# Altium schematic symbol library SamacSys.SchLib: 113 symbols (part 2 of 2)
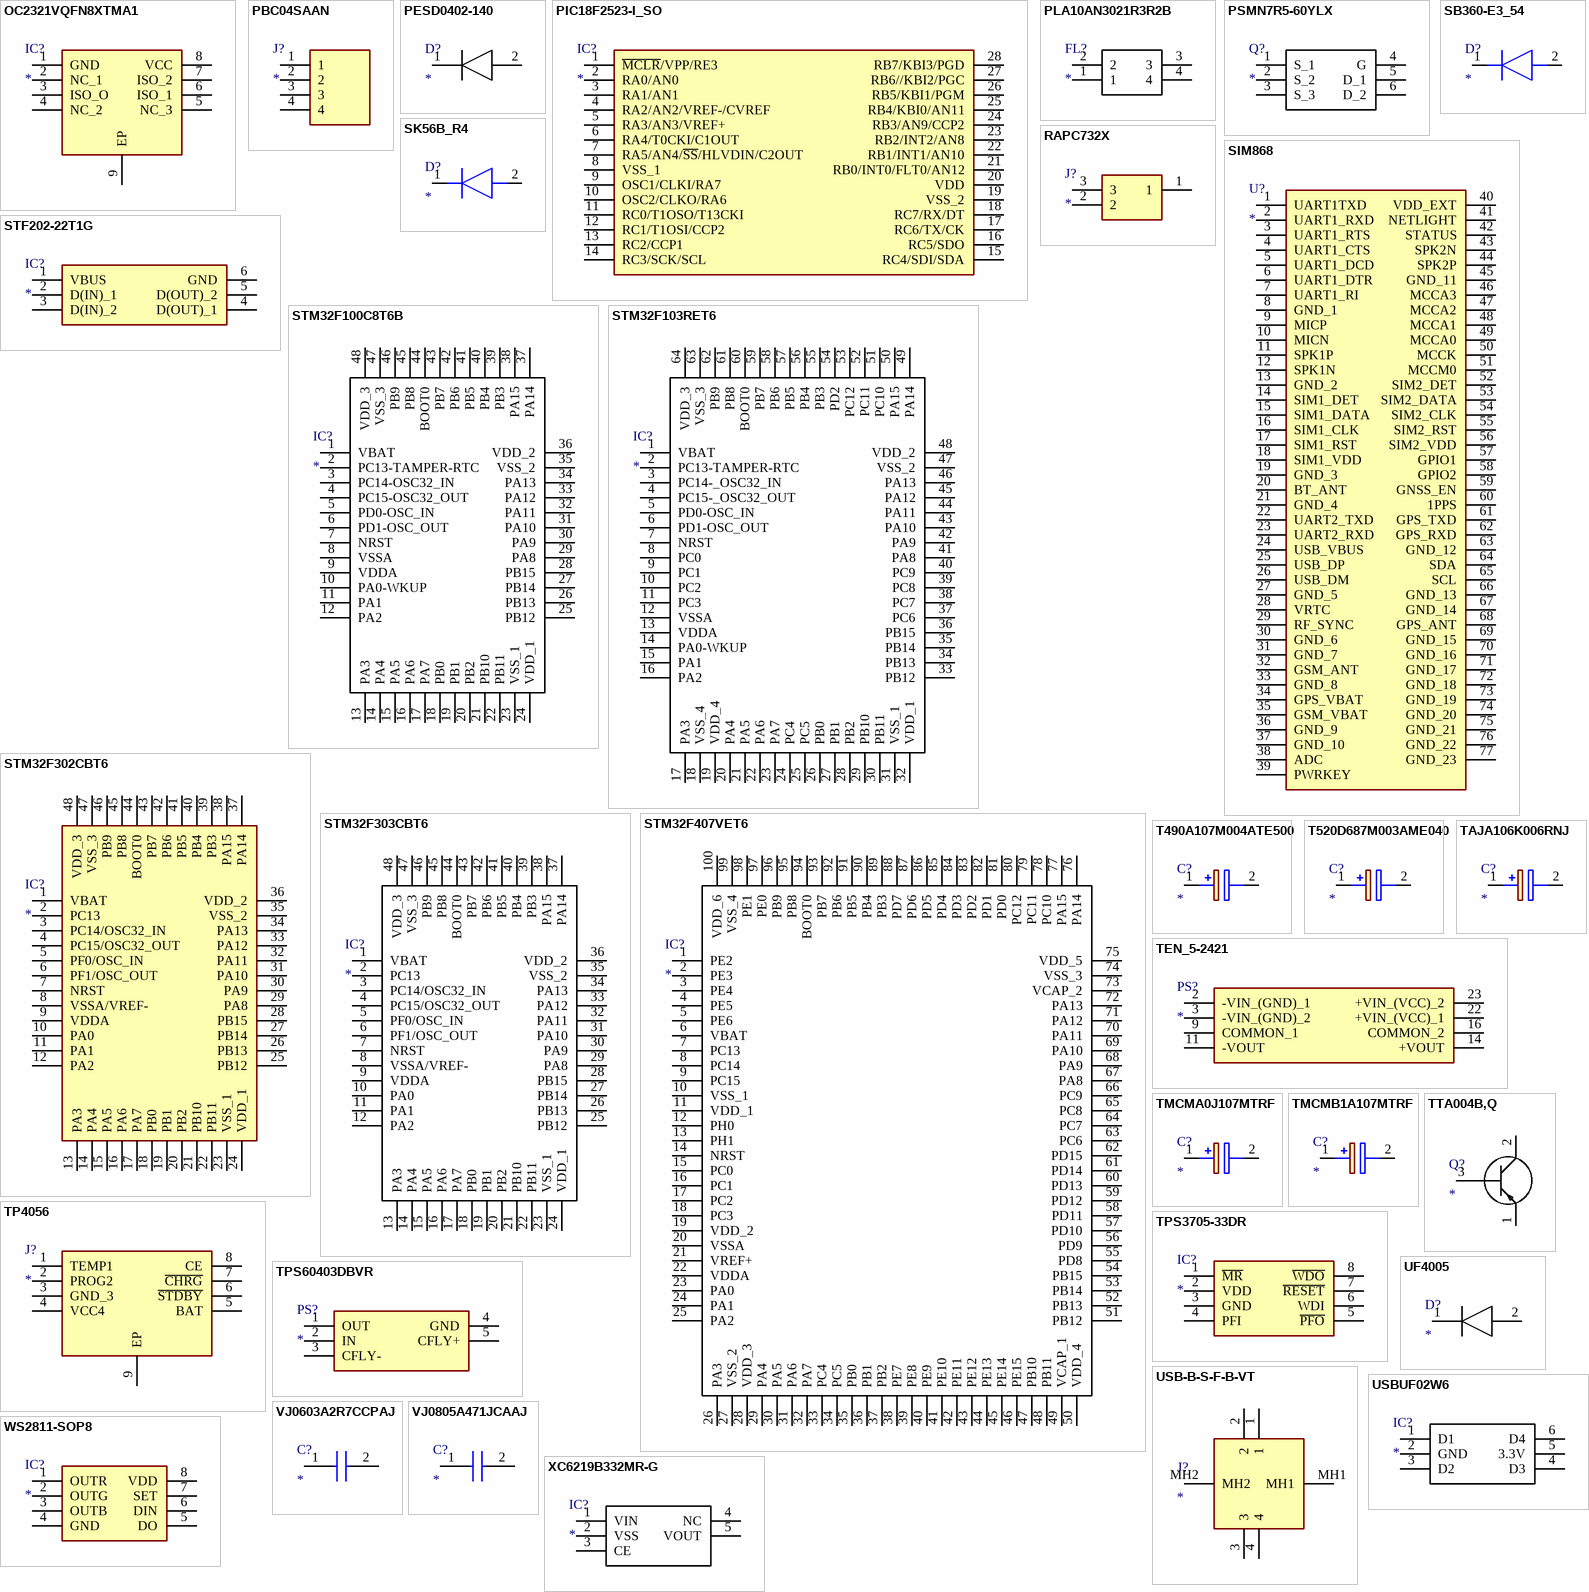
[diagram p3: symbols OC2321VQFN8XTMA1 to XC6219B332MR-G]

## STM32F302CBT6
designator IC?
Integrated Circuit; Manufacturer_Name: STMicroelectronics; Manufacturer_Part_Number: STM32F302CBT6; Datasheet Link: http://www.st.com/web/en/resource/technical/document/datasheet/DM00094064.pdf; Height: 1.6mm; Mouser Part Number: 511-STM32F302CBT6; Mouser Price/Stock: https://www.mouser.co.uk/ProductDetail/STMicroelectronics/STM32F302CBT6?qs=MgMGkPeFqc9mNHDa48Rp7g%3D%3D; Arrow Part Number: STM32F302CBT6; Arrow Price/Stock: https://www.arrow.com/en/products/stm32f302cbt6/stmicroelectronics
footprint QFP50P900X900X160-48N
pins: 1 VBAT, 2 PC13, 3 PC14/OSC32_IN, 4 PC15/OSC32_OUT, 5 PF0/OSC_IN, 6 PF1/OSC_OUT, 7 NRST, 8 VSSA/VREF-, 9 VDDA, 10 PA0, 11 PA1, 12 PA2, 13 PA3, 14 PA4, 15 PA5, 16 PA6, 17 PA7, 18 PB0, 19 PB1, 20 PB2, 21 PB10, 22 PB11, 23 VSS_1, 24 VDD_1, 25 PB12, 26 PB13, 27 PB14, 28 PB15, 29 PA8, 30 PA9, 31 PA10, 32 PA11, 33 PA12, 34 PA13, 35 VSS_2, 36 VDD_2, 37 PA14, 38 PA15, 39 PB3, 40 PB4, 41 PB5, 42 PB6, 43 PB7, 44 BOOT0, 45 PB8, 46 PB9, 47 VSS_3, 48 VDD_3

## STM32F303CBT6
designator IC?
Integrated Circuit; Manufacturer_Name: STMicroelectronics; Manufacturer_Part_Number: STM32F303CBT6; Description: STMICROELECTRONICS - STM32F303CBT6 - ARM MCU; Datasheet Link: http://www.st.com/web/en/resource/technical/document/datasheet/DM00058181.pdf; Height: 1.6mm; Mouser Part Number: 511-STM32F303CBT6; Mouser Price/Stock: https://www.mouser.co.uk/ProductDetail/STMicroelectronics/STM32F303CBT6?qs=MgMGkPeFqc%252BXYQm6xWYbvw%3D%3D; Arrow Part Number: STM32F303CBT6; Arrow Price/Stock: https://www.arrow.com/en/products/stm32f303cbt6/stmicroelectronics
footprint QFP50P900X900X160-48N
pins: 1 VBAT, 2 PC13, 3 PC14/OSC32_IN, 4 PC15/OSC32_OUT, 5 PF0/OSC_IN, 6 PF1/OSC_OUT, 7 NRST, 8 VSSA/VREF-, 9 VDDA, 10 PA0, 11 PA1, 12 PA2, 13 PA3, 14 PA4, 15 PA5, 16 PA6, 17 PA7, 18 PB0, 19 PB1, 20 PB2, 21 PB10, 22 PB11, 23 VSS_1, 24 VDD_1, 25 PB12, 26 PB13, 27 PB14, 28 PB15, 29 PA8, 30 PA9, 31 PA10, 32 PA11, 33 PA12, 34 PA13, 35 VSS_2, 36 VDD_2, 37 PA14, 38 PA15, 39 PB3, 40 PB4, 41 PB5, 42 PB6, 43 PB7, 44 BOOT0, 45 PB8, 46 PB9, 47 VSS_3, 48 VDD_3

## STM32F407VET6
designator IC?
Integrated Circuit; Manufacturer_Name: STMicroelectronics; Manufacturer_Part_Number: STM32F407VET6; Datasheet Link: http://www.st.com/web/en/resource/technical/document/datasheet/DM00037051.pdf; Height: 1.6mm; Mouser Part Number: 511-STM32F407VET6; Mouser Price/Stock: https://www.mouser.co.uk/ProductDetail/STMicroelectronics/STM32F407VET6?qs=Z8%252BeY1k3TIJFAMMqSR%252BGtw%3D%3D; Arrow Part Number: STM32F407VET6; Arrow Price/Stock: https://www.arrow.com/en/products/stm32f407vet6/stmicroelectronics?region=nac
footprint QFP50P1600X1600X160-100N
pins: 1 PE2, 2 PE3, 3 PE4, 4 PE5, 5 PE6, 6 VBAT, 7 PC13, 8 PC14, 9 PC15, 10 VSS_1, 11 VDD_1, 12 PH0, 13 PH1, 14 NRST, 15 PC0, 16 PC1, 17 PC2, 18 PC3, 19 VDD_2, 20 VSSA, 21 VREF+, 22 VDDA, 23 PA0, 24 PA1, 25 PA2, 26 PA3, 27 VSS_2, 28 VDD_3, 29 PA4, 30 PA5, 31 PA6, 32 PA7, 33 PC4, 34 PC5, 35 PB0, 36 PB1, 37 PB2, 38 PE7, 39 PE8, 40 PE9, 41 PE10, 42 PE11, 43 PE12, 44 PE13, 45 PE14, 46 PE15, 47 PB10, 48 PB11, 49 VCAP_1, 50 VDD_4, 51 PB12, 52 PB13, 53 PB14, 54 PB15, 55 PD8, 56 PD9, 57 PD10, 58 PD11, 59 PD12, 60 PD13, 61 PD14, 62 PD15, 63 PC6, 64 PC7, 65 PC8, 66 PC9, 67 PA8, 68 PA9, 69 PA10, 70 PA11, 71 PA12, 72 PA13, 73 VCAP_2, 74 VSS_3, 75 VDD_5, 76 PA14, 77 PA15, 78 PC10, 79 PC11, 80 PC12, 81 PD0, 82 PD1, 83 PD2, 84 PD3, 85 PD4, 86 PD5, 87 PD6, 88 PD7, 89 PB3, 90 PB4, 91 PB5, 92 PB6, 93 PB7, 94 BOOT0, 95 PB8, 96 PB9, 97 PE0, 98 PE1, 99 VSS_4, 100 VDD_6

## T490A107M004ATE500
designator C?
Capacitor Polarised; Manufacturer_Name: KEMET; Manufacturer_Part_Number: T490A107M004ATE500; Datasheet Link: https://content.kemet.com/datasheets/KEM_T2004_T490.pdf; Height: 1.8mm; Mouser Part Number: 80-T490A107M004500; Mouser Price/Stock: https://www.mouser.co.uk/ProductDetail/KEMET/T490A107M004ATE500?qs=Ad%252Bh9aq9FyX%2Fd5iGy7%252BKtA%3D%3D
footprint T490A
pins: 1 +, 2 -

## T520D687M003AME040
designator C?
Capacitor Polarised; Manufacturer_Name: KEMET; Manufacturer_Part_Number: T520D687M003AME040; Datasheet Link: http://componentsearchengine.com/Datasheets/1/T520D687M003AME040.pdf; Height: 3.1mm; Mouser Part Number: 80-T520D687M3AME40; Mouser Price/Stock: https://www.mouser.com/Search/Refine.aspx?Keyword=80-T520D687M3AME40
footprint T520D
pins: 1 +, 2 -

## TAJA106K006RNJ
designator C?
Capacitor Polarised; Manufacturer_Name: AVX; Manufacturer_Part_Number: TAJA106K006RNJ; Datasheet Link: http://www.farnell.com/datasheets/1680476.pdf; Height: 1.8mm; Mouser Part Number: 581-TAJA106K006R; Mouser Price/Stock: https://www.mouser.co.uk/ProductDetail/AVX/TAJA106K006RNJ?qs=OVpPYgiJXXXExJiDx3gF5A%3D%3D; Arrow Part Number: TAJA106K006RNJ; Arrow Price/Stock: https://www.arrow.com/en/products/taja106k006rnj/avx
footprint CAPPM3216X180N
pins: 1 +, 2 -

## TEN_5-2421
designator PS?
Power Supply; Manufacturer_Name: Traco Power; Manufacturer_Part_Number: TEN 5-2421; Datasheet Link: https://tracopower.com/ten5-datasheet/; Height: 10.45mm; Mouser Part Number: 495-TEN-5-2421; Mouser Price/Stock: https://www.mouser.com/Search/Refine.aspx?Keyword=495-TEN-5-2421
footprint TEN52422
pins: 2 -VIN_(GND)_1, 3 -VIN_(GND)_2, 9 COMMON_1, 11 -VOUT, 14 +VOUT, 16 COMMON_2, 22 +VIN_(VCC)_1, 23 +VIN_(VCC)_2

## TMCMA0J107MTRF
designator C?
Capacitor Polarised; Manufacturer_Name: Vishay; Manufacturer_Part_Number: TMCMA0J107MTRF; Datasheet Link: http://www.vishay.com/docs/40178/tmcm.pdf; Height: 1.8mm; Mouser Part Number: 74-TMCMA0J107MTRF; Mouser Price/Stock: https://www.mouser.com/Search/Refine.aspx?Keyword=74-TMCMA0J107MTRF; Arrow Part Number: TMCMA0J107MTRF; Arrow Price/Stock: https://www.arrow.com/en/products/tmcma0j107mtrf/vishay
footprint CAPPM3216X180N
pins: 1 +, 2 -

## TMCMB1A107MTRF
designator C?
Capacitor Polarised; Manufacturer_Name: Vishay; Manufacturer_Part_Number: TMCMB1A107MTRF; Datasheet Link: http://www.farnell.com/datasheets/2899268.pdf; Height: 2.1mm; Mouser Part Number: 74-TMCMB1A107MTRF; Mouser Price/Stock: https://www.mouser.co.uk/ProductDetail/Vishay-Sprague/TMCMB1A107MTRF?qs=NgbZBzc1CyHbQIfZUApxAw%3D%3D; Arrow Part Number: TMCMB1A107MTRF; Arrow Price/Stock: https://www.arrow.com/en/products/tmcmb1a107mtrf/vishay
footprint CAPPM3528X210N
pins: 1 +, 2 -

## TP4056
designator J?
Connector; Manufacturer_Name: NanJing Top Power; Manufacturer_Part_Number: TP4056; Datasheet Link: https://dlnmh9ip6v2uc.cloudfront.net/datasheets/Prototyping/TP4056.pdf; Height: 1.75mm
footprint SOIC127P600X175-9N
pins: 1 TEMP1, 2 PROG2, 3 GND_3, 4 VCC4, 5 BAT, 6 ~{STDBY}, 7 ~{CHRG}, 8 CE, 9 EP

## TPS3705-33DR
designator IC?
Integrated Circuit; Manufacturer_Name: Texas Instruments; Manufacturer_Part_Number: TPS3705-33DR; Datasheet Link: http://www.ti.com/lit/gpn/TPS3705; Height: 1.75mm; Mouser Part Number: 595-TPS3705-33DR; Mouser Price/Stock: https://www.mouser.co.uk/ProductDetail/Texas-Instruments/TPS3705-33DR?qs=zwk82MlA57bQjUG%2FzeNJiw%3D%3D; Arrow Part Number: TPS3705-33DR; Arrow Price/Stock: https://www.arrow.com/en/products/tps3705-33dr/texas-instruments
footprint SOIC127P600X175-8N
pins: 1 ~{MR}, 2 VDD, 3 GND, 4 PFI, 5 ~{PFO}, 6 WDI, 7 ~{RESET}, 8 ~{WDO}

## TPS60403DBVR
designator PS?
Power Supply; Manufacturer_Name: Texas Instruments; Manufacturer_Part_Number: TPS60403DBVR; Datasheet Link: http://www.ti.com/lit/gpn/tps60403; Height: 1.45mm; Mouser Part Number: 595-TPS60403DBVR; Mouser Price/Stock: https://www.mouser.co.uk/ProductDetail/Texas-Instruments/TPS60403DBVR?qs=Gse6rAGbi78QziU1WFApxQ%3D%3D; Arrow Part Number: TPS60403DBVR; Arrow Price/Stock: https://www.arrow.com/en/products/tps60403dbvr/texas-instruments?region=nac
footprint SOT95P280X145-5N
pins: 1 OUT, 2 IN, 3 CFLY-, 4 GND, 5 CFLY+

## TTA004B,Q
designator Q?
Transistor BJT PNP; Manufacturer_Name: Toshiba; Manufacturer_Part_Number: TTA004B,Q; Datasheet Link: http://toshiba.semicon-storage.com/info/docget.jsp?did=14399&prodName=TTA004B; Height: 3.45mm; Mouser Part Number: 757-TTA004BQ; Mouser Price/Stock: https://www.mouser.co.uk/ProductDetail/Toshiba/TTA004BQ?qs=Mv7BduZupUjGQix8c1RZeA%3D%3D; Arrow Part Number: TTA004B,Q; Arrow Price/Stock: https://www.arrow.com/en/products/tta004bq/toshiba
footprint TO230P345X800X1470-3P
pins: 1 E, 2 C, 3 B

## UF4005
designator D?
Diode; Manufacturer_Name: onsemi; Manufacturer_Part_Number: UF4005; Datasheet Link: http://www.onsemi.com/pub/Collateral/UF4007-D.pdf; Mouser Part Number: 512-UF4005; Mouser Price/Stock: https://www.mouser.co.uk/ProductDetail/onsemi-Fairchild/UF4005?qs=NwIfwa72FlqRqni8QKsVEg%3D%3D; Arrow Part Number: UF4005; Arrow Price/Stock: https://www.arrow.com/en/products/uf4005/on-semiconductor?region=europe
footprint DIOAD1413W86L463D238
pins: 1 K, 2 A

## USB-B-S-F-B-VT
designator J?
Connector; Manufacturer_Name: SAMTEC; Manufacturer_Part_Number: USB-B-S-F-B-VT; Datasheet Link: http://suddendocs.samtec.com/prints/usb-b-s-x-x-vt-x-mkt.pdf; Height: 16mm; Mouser Part Number: 200-USBBSFBVT; Mouser Price/Stock: https://www.mouser.co.uk/ProductDetail/Samtec/USB-B-S-F-B-VT?qs=Cqqh%252BS766wkoFHBjfFS4Sw%3D%3D; Arrow Part Number: USB-B-S-F-B-VT; Arrow Price/Stock: https://www.arrow.com/en/products/usb-b-s-f-b-vt/samtec
footprint USBBSFBVT
pins: 1, 2, 3, 4, MH1, MH2

## USBUF02W6
designator IC?
Integrated Circuit; Manufacturer_Name: STMicroelectronics; Manufacturer_Part_Number: USBUF02W6; Datasheet Link: http://www.st.com/web/en/resource/technical/document/datasheet/CD00002046.pdf; Height: 1.1mm; Mouser Part Number: 511-USBUF02W6; Mouser Price/Stock: https://www.mouser.co.uk/ProductDetail/STMicroelectronics/USBUF02W6?qs=po45yt2pPpsSshudxXreiQ%3D%3D; Arrow Part Number: USBUF02W6; Arrow Price/Stock: https://www.arrow.com/en/products/usbuf02w6/stmicroelectronics?region=nac
footprint SOT65P210X110-6N
pins: 1 D1, 2 GND (power), 3 D2, 4 D3, 5 3.3V, 6 D4

## VJ0603A2R7CCPAJ
designator C?
Capacitor; Manufacturer_Name: Vishay; Manufacturer_Part_Number: VJ0603A2R7CCPAJ; Datasheet Link: http://www.vishay.com/docs/45226/vj31xrohsautomlcc.pdf; Height: 0.97mm
footprint CAPC1608X97N
pins: 1, 2

## VJ0805A471JCAAJ
designator C?
Capacitor; Manufacturer_Name: Vishay; Manufacturer_Part_Number: VJ0805A471JCAAJ; Datasheet Link: http://www.vishay.com/docs/45226/vj31xrohsautomlcc.pdf; Height: 1.45mm
footprint CAPC2012X145N
pins: 1, 2

## WS2811-SOP8
designator IC?
Integrated Circuit; Manufacturer_Name: Worldsemi; Manufacturer_Part_Number: WS2811-SOP8; Datasheet Link: https://pdf1.alldatasheet.com/datasheet-pdf/view/1132633/WORLDSEMI/WS2811.html; Height: 1.75mm
footprint SOIC127P600X175-8N
pins: 1 OUTR, 2 OUTG, 3 OUTB, 4 GND, 5 DO, 6 DIN, 7 SET, 8 VDD

## XC6219B332MR-G
designator IC?
Integrated Circuit; Manufacturer_Name: Torex; Manufacturer_Part_Number: XC6219B332MR-G; Datasheet Link: https://www.torexsemi.com/file/xc6219/XC6219.pdf; Height: 1.3mm; Mouser Part Number: 865-XC6219B332MR-G; Mouser Price/Stock: https://www.mouser.co.uk/ProductDetail/Torex-Semiconductor/XC6219B332MR-G?qs=AsjdqWjXhJ8a4g0ay5gV8w%3D%3D
footprint SOT95P280X130-5N
pins: 1 VIN, 2 VSS, 3 CE, 4 NC, 5 VOUT